# EAGLE library part JD-T1800 (library Oles komponentbibliotek)
JD-T1800 (TFT177T027FPC) 128 x 160 pixel SPI LCD display.
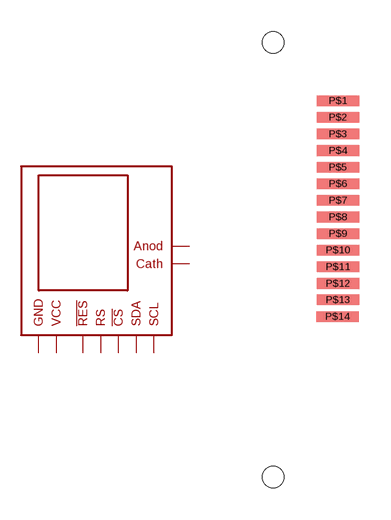
[diagram p29: symbol with the pads of JD-T1800-CONNECTOR14; footprint JD-T1800-CONNECTOR14]

Designator prefix -

## JD-T1800  [JD-T1800-CONNECTOR14]
P$2  GND  pwr
P$3  CATH  pwr
P$4  ANOD  pwr
P$5  GND  pwr
P$6  !RESET  in
P$7  RS  in
P$8  SDA  in
P$9  SCL  in
P$10  VCC  pwr
P$11  VCC  pwr
P$12  !CS  in
P$13  GND  pwr

## Footprint JD-T1800-CONNECTOR14 (pad centres in mm)
JD-T1800 (TFT177T027FPC) LCD display
smd 2 x 0.5: P$1 0.06,4.95; P$2 0.06,4.168; P$3 0.06,3.38; P$4 0.06,2.598; P$5 0.06,1.812; P$6 0.06,1.035; P$7 0.06,0.25; P$8 0.06,-0.535; P$9 0.06,-1.317; P$10 0.06,-2.095; P$11 0.06,-2.882; P$12 0.06,-3.67; P$13 0.06,-4.44; P$14 0.035,-5.228
hole 1 at -3,7.7
hole 1 at -3,-12.8